# Altium footprint library TPS62091.PcbLib: 1 footprints
Each footprint in its own frame and in the unit in brackets; x right, y up, seen from the top. Pads: shape width x height; smd on the part's side, far side on the other; paste and mask are expansions set on the pad; w line width, h text height; cw(c..) or ccw(c..) is an arc to the next point about the centre after c.
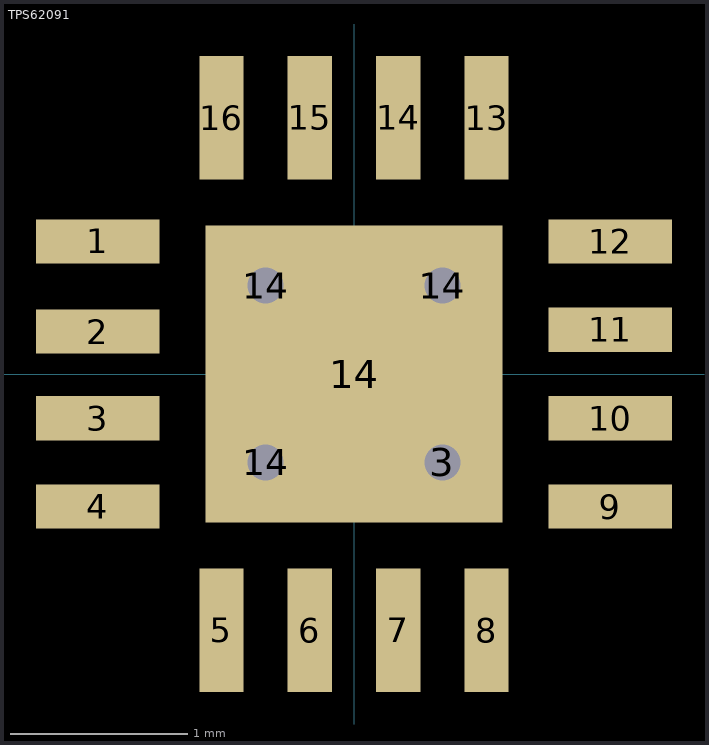
[diagram p0: the footprint, top view; thin cyan lines are the x and y axes]

## TPS62091 [mm]
pads (21):
  rect 0.7x0.25 smd mask+0.07: 1(-1.45,0.75) 2(-1.45,0.24) 3(-1.45,-0.25) 4(-1.45,-0.75) 9(1.45,-0.75) 10(1.45,-0.25) 11(1.45,0.25) 12(1.45,0.75)
  round 0.33 hole 0.203: 3(0.5,-0.5) 14(-0.5,-0.5) 14(-0.5,0.5) 14(0.5,0.5)
  rect 0.25x0.7 smd mask+0.07: 5(-0.75,-1.45) 6(-0.25,-1.45) 7(0.25,-1.45) 8(0.75,-1.45) 13(0.75,1.45) 14(0.25,1.45) 15(-0.25,1.45) 16(-0.75,1.45)
  rect 1.68x1.68 smd mask+0.07: 14(0,0)
Top Overlay:
  text "." at -1.778,1.524 h1.52